# EAGLE library part TPS61032PWP (library TPS61031PWPR)
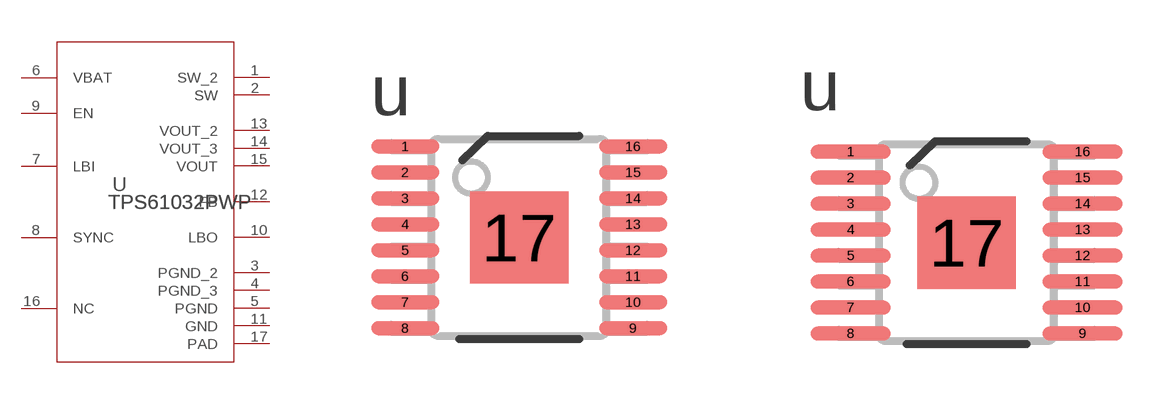
[diagram p0: symbol with the pads of PWP0016K_N; footprints PWP0016K_N, PWP0016K_M]

Designator prefix U

## TPS61032PWP (COPYRIGHT: Copyright (C) 2022 Ultra Librarian. All rights reserved.; DIGI-KEY_PART_NUMBER_1: 296-27007-5-ND; DIGI-KEY_PART_NUMBER_2: 2156-TPS61032PWP-ND; MANUFACTURER_PART_NUMBER: TPS61032PWP; MFR_NAME: Texas Instruments; REFDES: RefDes; TYPE: TYPE)  [PWP0016K_N]
1  SW_2  pwr
2  SW  pwr
3  PGND_2  pwr
4  PGND_3  pwr
5  PGND  pwr
6  VBAT  pwr
7  LBI  in
8  SYNC  in
9  EN  in
10  LBO  hiz
11  GND  pwr
12  FB  in
13  VOUT_2  pwr
14  VOUT_3  pwr
15  VOUT  pwr
16  NC  pas
17  PAD  pwr

## TPS61032PWPPWP0016K_M (COPYRIGHT: Copyright (C) 2022 Ultra Librarian. All rights reserved.; DIGI-KEY_PART_NUMBER_1: 296-27007-5-ND; DIGI-KEY_PART_NUMBER_2: 2156-TPS61032PWP-ND; MANUFACTURER_PART_NUMBER: TPS61032PWP; MFR_NAME: Texas Instruments; REFDES: RefDes; TYPE: TYPE)  [PWP0016K_M]
Pads as for PWP0016K_N

## TPS61032PWPPWP0016K_L (COPYRIGHT: Copyright (C) 2022 Ultra Librarian. All rights reserved.; DIGI-KEY_PART_NUMBER_1: 296-27007-5-ND; DIGI-KEY_PART_NUMBER_2: 2156-TPS61032PWP-ND; MANUFACTURER_PART_NUMBER: TPS61032PWP; MFR_NAME: Texas Instruments; REFDES: RefDes; TYPE: TYPE)  [PWP0016K_L]
Pads as for PWP0016K_N

## Footprint PWP0016K_N (pad centres in mm)
smd 1.7 x 0.35: 1 -2.85,2.275; 2 -2.85,1.625; 3 -2.85,0.975; 4 -2.85,0.325; 5 -2.85,-0.325; 6 -2.85,-0.975; 7 -2.85,-1.625; 8 -2.85,-2.275; 9 2.85,-2.275; 10 2.85,-1.625; 11 2.85,-0.975; 12 2.85,-0.325; 13 2.85,0.325; 14 2.85,0.975; 15 2.85,1.625; 16 2.85,2.275
smd 2.46 x 2.31: 17 0,0

## Footprint PWP0016K_M (pad centres in mm)
smd 2 x 0.35: 1 -2.9,2.275; 2 -2.9,1.625; 3 -2.9,0.975; 4 -2.9,0.325; 5 -2.9,-0.325; 6 -2.9,-0.975; 7 -2.9,-1.625; 8 -2.9,-2.275; 9 2.9,-2.275; 10 2.9,-1.625; 11 2.9,-0.975; 12 2.9,-0.325; 13 2.9,0.325; 14 2.9,0.975; 15 2.9,1.625; 16 2.9,2.275
smd 2.46 x 2.31: 17 0,0

## Footprint PWP0016K_L (pad centres in mm)
smd 1.4 x 0.35: 1 -2.8,2.275; 2 -2.8,1.625; 3 -2.8,0.975; 4 -2.8,0.325; 5 -2.8,-0.325; 6 -2.8,-0.975; 7 -2.8,-1.625; 8 -2.8,-2.275; 9 2.8,-2.275; 10 2.8,-1.625; 11 2.8,-0.975; 12 2.8,-0.325; 13 2.8,0.325; 14 2.8,0.975; 15 2.8,1.625; 16 2.8,2.275
smd 2.46 x 2.31: 17 0,0